# EAGLE library part OLED-27PIN-SSD1308 (library anykey)
OLED module
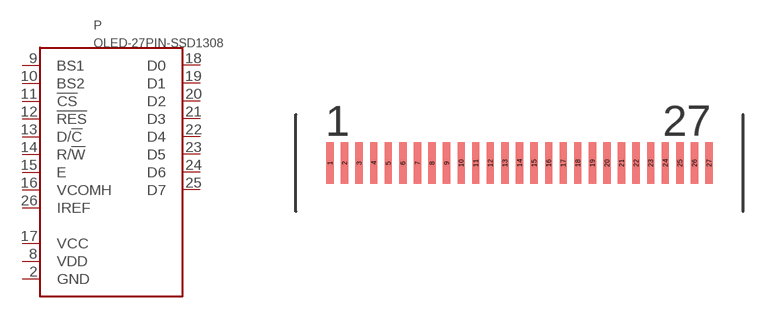
[diagram p25: symbol with the pads of OLED-27PIN-0.6MM; footprint OLED-27PIN-0.6MM]

Designator prefix P

## OLED-27PIN-SSD1308  [OLED-27PIN-0.6MM]
2  GND
8  VDD
9  BS1
10  BS2
11  !CS
12  !RES
13  D/!C
14  R/!W
15  E
16  VCOMH
17  VCC
18  D0
19  D1
20  D2
21  D3
22  D4
23  D5
24  D6
25  D7
26  IREF

## Footprint OLED-27PIN-0.6MM (pad centres in mm)
smd 0.3 x 1.7: 1 -7.8,0; 2 -7.2,0; 3 -6.6,0; 4 -6,0; 5 -5.4,0; 6 -4.8,0; 7 -4.2,0; 8 -3.6,0; 9 -3,0; 10 -2.4,0; 11 -1.8,0; 12 -1.2,0; 13 -0.6,0; 14 0,0; 15 0.6,0; 16 1.2,0; 17 1.8,0; 18 2.4,0; 19 3,0; 20 3.6,0; 21 4.2,0; 22 4.8,0; 23 5.4,0; 24 6,0; 25 6.6,0; 26 7.2,0; 27 7.8,0